# EAGLE library part 74HC125 (library custom)
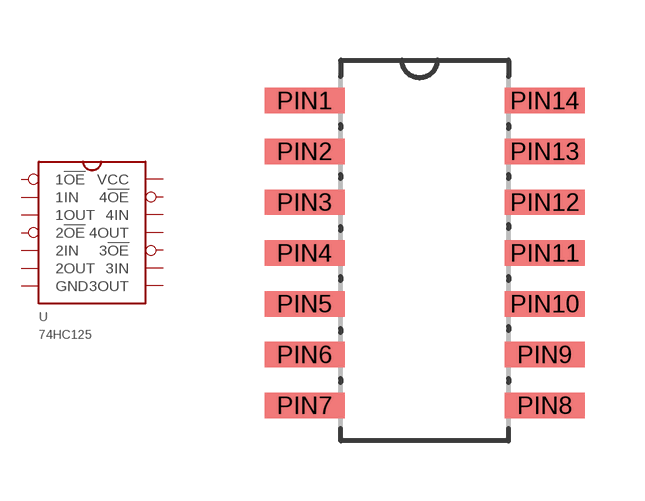
[diagram p6: symbol with the pads of SOIC14; footprint SOIC14]

Designator prefix -

## 74HC125  [SOIC14]
PIN1  1!OE
PIN2  1IN
PIN3  1OUT
PIN4  2!OE
PIN5  2IN
PIN6  2OUT
PIN7  GND
PIN8  3OUT
PIN9  3IN
PIN10  3!OE
PIN11  4OUT
PIN12  4IN
PIN13  4!OE
PIN14  VCC

## Footprint SOIC14 (pad centres in mm)
smd 2 x 0.635: PIN1 -3.05,3.6; PIN2 -3.05,2.33; PIN3 -3.05,1.06; PIN4 -3.05,-0.21; PIN5 -3.05,-1.48; PIN6 -3.05,-2.75; PIN7 -3.05,-4.02; PIN8 2.957,-4.02; PIN9 2.957,-2.75; PIN10 2.957,-1.48; PIN11 2.957,-0.21; PIN12 2.957,1.06; PIN13 2.957,2.33; PIN14 2.957,3.6